# Altium schematic symbol library LM2611.SchLib: 1 symbol
Pins are listed as number, name and electrical type; pins without a type are passive.

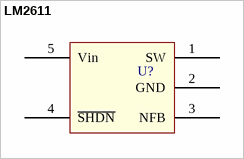
[diagram p0: symbol LM2611]

## LM2611
designator U?  (value not drawn)
pins: 1 SW, 2 GND, 3 NFB, 4 ~{SHDN}, 5 Vin